# EAGLE library part 555 (library my_ic)
Timer NJM555
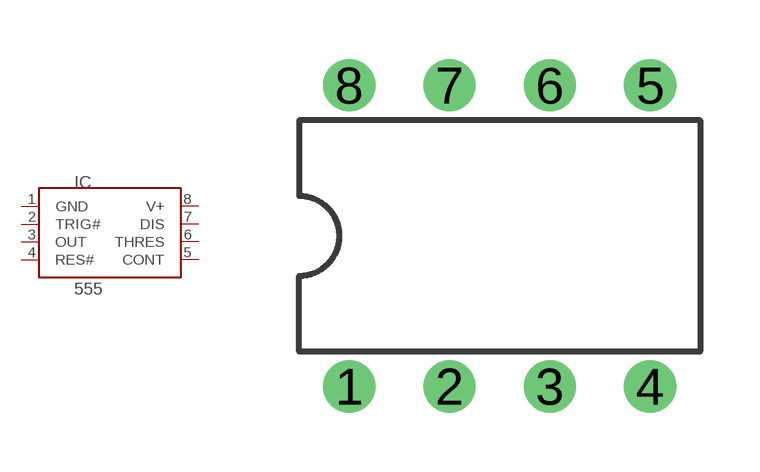
[diagram p2: symbol with the pads of DIL08; footprint DIL08]

Designator prefix IC

## 555D  [DIL08]
1  GND  pwr
2  TRIG#  in
3  OUT  out
4  RES#  in
5  CONT
6  THRES  in
7  DIS  out
8  V+  pwr

## Footprint DIL08 (pad centres in mm)
Dual In Line Package
drill 0.813 pad 1.27: 1 -3.81,-3.81; 2 -1.27,-3.81; 3 1.27,-3.81; 4 3.81,-3.81; 5 3.81,3.81; 6 1.27,3.81; 7 -1.27,3.81; 8 -3.81,3.81